# Altium schematic symbol library VEJ101M1HTR-0810.Schlib: 1 symbol
Pins are listed as number, name and electrical type; pins without a type are passive.

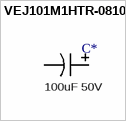
[diagram p0: symbol VEJ101M1HTR-0810]

## VEJ101M1HTR-0810
designator C*  value 100uF 50V  (hidden comment: *)
100uF ±20% 50V SMD,8x10mm Aluminum Electrolytic Capacitors - SMD RoHS; ComponentLink1Description: LCSC - Lelon VEJ101M1HTR-0810; ComponentLink1URL: https://lcsc.com/product-detail/Aluminum-Electrolytic-Capacitors-SMD_Lelon-VEJ101M1HTR-0810_C176665.html/?href=jlc-SMT; LCSC Part #: C176665; JLCPCB Part Type: Extended
footprint CAP ALSMD POLY 8.3MM H10.0MM (Aluminum Electrolytic Capacitor, Body 8.30x8.30x10.0mm)
pins: 1, 2